# Altium integrated library ADUM1410ARWZ-RL.IntLib: 1 symbol
Pins are listed as number, name and electrical type; pins without a type are passive.

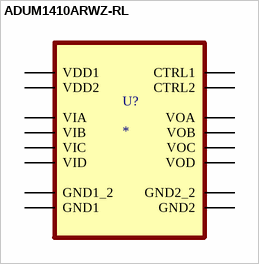
[diagram p0: symbol ADUM1410ARWZ-RL]

## ADUM1410ARWZ-RL
designator U?
General Purpose Digital Isolator 3750Vrms 4 Channel 1Mbps 25kV/Âµs CMTI 16-SOIC (0.295, 7.50mm Width); MF: Analog Devices; MP: ADUM1410ARWZ-RL; Value: *; Price: None; Package: SOIC WIDE-16 Analog Devices; Check_prices: https://www.snapeda.com/parts/ADUM1410ARWZ-RL/Analog%20Devices%20Inc./view-part/218138/?ref=eda; Availability: Bad; SnapEDA_Link: https://www.snapeda.com/parts/ADUM1410ARWZ-RL/Analog%20Devices%20Inc./view-part/218138/?ref=snap
footprint SOIC127P1032X265-16N
pins: 1 VDD1 (power), 2 GND1_2, 3 VIA, 4 VIB, 5 VIC, 6 VID, 7 CTRL1, 8 GND1, 9 GND2_2, 10 CTRL2, 11 VOD, 12 VOC, 13 VOB, 14 VOA, 15 GND2, 16 VDD2 (power)